# Altium schematic symbol library EnvMonitor.SchLib: 2 symbols
Pins are listed as number, name and electrical type; pins without a type are passive.

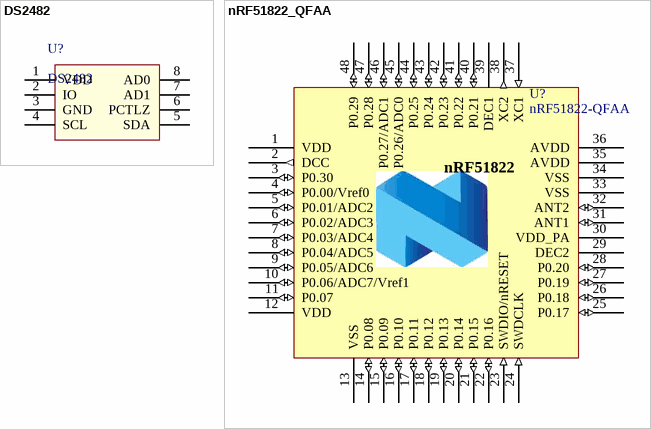
[diagram p0: symbols DS2482 to nRF51822_QFAA]

## DS2482
designator U?
pins: 1 VDD, 2 IO, 3 GND, 4 SCL, 5 SDA, 6 PCTLZ, 7 AD1, 8 AD0

## nRF51822_QFAA
designator U?, comment nRF51822-QFAA
Multi-protocol Bluetooth Low Energy and 2.4GHz proprietary system-on-chip; Part Number: nRF51822-QFAA-XLR2.4; Manufacturer: Nordic Semiconductor; Manufacturer Part Number: nRF51822-QFAAGx; Note: nRF51822 - QFN48 6x6 0.4mm pitch; Artikkelnr Noca: 15079242; Datasheet: *; Footprint: QFN-48; LatestRevisionDate: 2013-10-18; Pin Count: 48; Publisher: Nordic Semiconductor; Published: 2013-09-04; Value: nRF51822-QFAA; Supplier: Nordic Semiconductor; Supplier part number: *; 2nd source Supplier: *; 2nd source part number: *
footprint QFN40P600X600X90-48N
pins: 1 VDD (power), 2 DCC (out), 3 P0.30 (io), 4 P0.00/Vref0 (io), 5 P0.01/ADC2 (io), 6 P0.02/ADC3 (io), 7 P0.03/ADC4 (io), 8 P0.04/ADC5 (io), 9 P0.05/ADC6 (io), 10 P0.06/ADC7/Vref1 (io), 11 P0.07 (io), 12 VDD (power), 13 VSS (power), 14 P0.08 (io), 15 P0.09 (io), 16 P0.10 (io), 17 P0.11 (io), 18 P0.12 (io), 19 P0.13 (io), 20 P0.14 (io), 21 P0.15 (io), 22 P0.16 (io), 23 SWDIO/nRESET (in), 24 SWDCLK (in), 25 P0.17 (io), 26 P0.18 (io), 27 P0.19 (io), 28 P0.20 (io), 29 DEC2 (power), 30 VDD_PA (power), 31 ANT1 (io), 32 ANT2 (io), 33 VSS (power), 34 VSS (power), 35 AVDD (power), 36 AVDD (power), 37 XC1 (in), 38 XC2 (out), 39 DEC1 (power), 40 P0.21 (io), 41 P0.22 (io), 42 P0.23 (io), 43 P0.24 (io), 44 P0.25 (io), 45 P0.26/ADC0 (io), 46 P0.27/ADC1 (io), 47 P0.28 (io), 48 P0.29 (io), 49 (power) hidden to GND
text: nRF51822